# Altium schematic symbol library 6N137.Schlib: 1 symbol
Pins are listed as number, name and electrical type; pins without a type are passive.

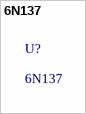
[diagram p0: symbol 6N137]

## 6N137
designator U?
Open Collector Output Optocoupler